# Altium schematic symbol library AP1117.SchLib: 1 symbol
Pins are listed as number, name and electrical type; pins without a type are passive.

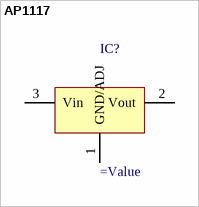
[diagram p0: symbol AP1117]

## AP1117
designator IC?
=Description
pins: 1 GND/ADJ (power), 2 Vout (power), 3 Vin (power)